# EAGLE library part INA330 (library ic)
INA330: Thermistor signal amplifier (Texas Instruments) +5V, voltage and current output
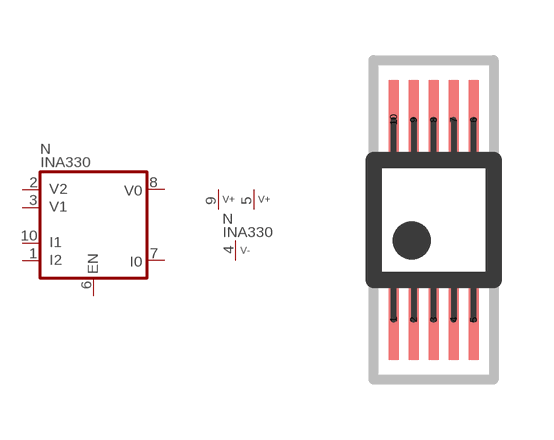
[diagram p77: symbol with the pads of MSOP10; footprint MSOP10]

Designator prefix N; gates  =INA330 P=V2+-

## INA330  [MSOP10]
1   :I2  out
2   :V2  in
3   :V1  in
4  P:V-  pwr
5  P:V+2  pwr
6   :EN  in
7   :I0  out
8   :V0  out
9  P:V+1  pwr
10   :I1  out

## Footprint MSOP10 (pad centres in mm)
smd 0.25 x 2: 1 -1,-2.5; 2 -0.5,-2.5; 3 0,-2.5; 4 0.5,-2.5; 5 1,-2.5; 6 1,2.5; 7 0.5,2.5; 8 0,2.5; 9 -0.5,2.5; 10 -1,2.5